# EAGLE library part BLMS-STEREO-SW (library mb_jacks)
BLMS 1/4" Stereo Switched jack with 20mm body
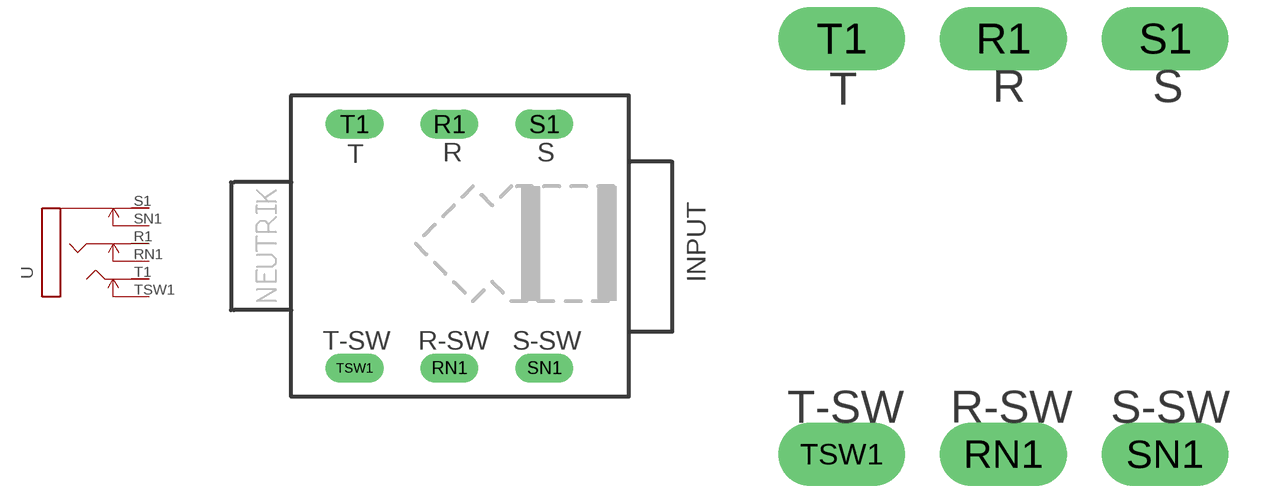
[diagram p1: symbol with the pads of BLMSJ6HC-S; footprints BLMSJ6HC-S, BLMSJ6HC-S-PLAIN]

Designator prefix -

## BLMS-STEREO-SW  [BLMSJ6HC-S]
R1  R  pas
RN1  RN  pas
S1  S  pas
SN1  SN  pas
T1  T  pas
TSW1  TN  pas

## BLMS-STEREO-SWBLMSJ6HC-S-PLAIN  [BLMSJ6HC-S-PLAIN]
Pads as for BLMSJ6HC-S

## Footprint BLMSJ6HC-S (pad centres in mm)
drill 0.8 pad 1.93 long: R1 10.5,18.1; RN1 10.5,1.9; S1 16.8,18.1; SN1 16.8,1.9; T1 4.2,18.1; TSW1 4.2,1.9

## Footprint BLMSJ6HC-S-PLAIN (pad centres in mm)
drill 1.651 pad 1.93 long: R1 10.5,18.1; RN1 10.5,1.9; S1 16.8,18.1; SN1 16.8,1.9; T1 4.2,18.1; TSW1 4.2,1.9